# Altium footprint library ADXL343BCCZRL.PcbLib: 1 footprints
Each footprint in its own frame and in the unit in brackets; x right, y up, seen from the top. Pads: shape width x height; smd on the part's side, far side on the other; paste and mask are expansions set on the pad; w line width, h text height; cw(c..) or ccw(c..) is an arc to the next point about the centre after c.
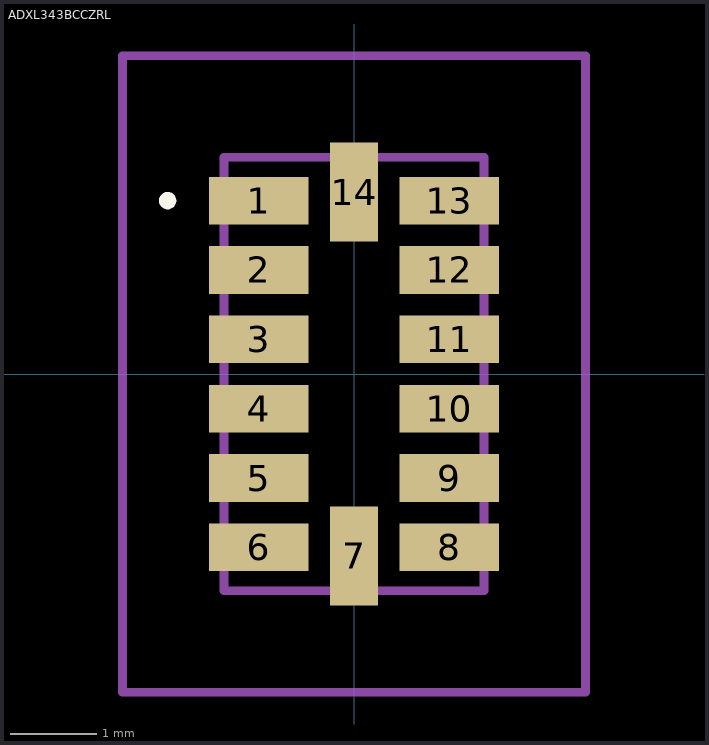
[diagram p0: the footprint, top view; thin cyan lines are the x and y axes]

## ADXL343BCCZRL [mm]
pads (14):
  rect 1.145x0.55 smd: 1(-1.098,2) 2(-1.098,1.2) 3(-1.098,0.4) 4(-1.098,-0.4) 5(-1.098,-1.2) 6(-1.098,-2) 8(1.098,-2) 9(1.098,-1.2) 10(1.098,-0.4) 11(1.098,0.4) 12(1.098,1.2) 13(1.098,2)
  rect 0.55x1.145 smd: 7(0,-2.098) 14(0,2.098)
Top Overlay:
  lines w0.1: -2.2,2 cw(c-2.15,2) -2.1,2 ; -2.2,2 -2.2,2 ; -2.2,2 ccw(c-2.15,2) -2.1,2 ; -2.1,2 -2.1,2
Mechanical 15:
  lines w0.1: -1.5,-2.5 1.5,-2.5 1.5,2.5 -1.5,2.5 -1.5,-2.5
Mechanical 20:
  lines w0.1: -2.67,-3.67 2.67,-3.67 2.67,3.67 -2.67,3.67 -2.67,-3.67